# Altium schematic symbol library IC_TLP190.SchLib: 1 symbol
Pins are listed as number, name and electrical type; pins without a type are passive.

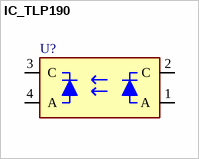
[diagram p0: symbol IC_TLP190]

## IC_TLP190
designator U?
pins: 1 A, 2 C, 3 C, 4 A